# EAGLE library part 613018216921 (library Wurth_Elektronik2)
WR-PHD 2.54mm Dual S. Header Bottom Entry Large, 18 Pins=>Code : Con_BTB_SHD_2.54_2_613018216921 <http://katalog.we-online.de/media/images/eican/Con_BTB_SHD_2.54_2_6130xx216921_pf2.jpg> Details see: http://katalog.we-online.de/en/em/613_0xx_216_921 Created 2014-05-30, Karrer Zheng 2014 (C) Würth Elektronik
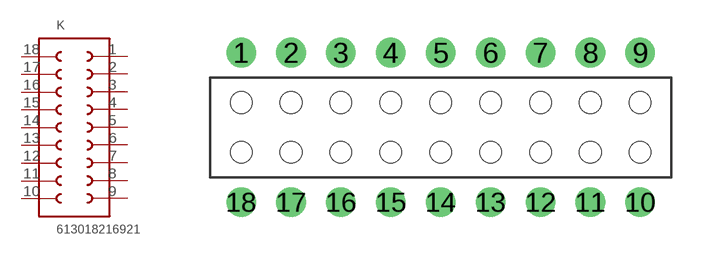
[diagram p173: symbol with the pads of 613018216921; footprint 613018216921]

Designator prefix K

## 613018216921  [613018216921]
1  1  pas
2  2  pas
3  3  pas
4  4  pas
5  5  pas
6  6  pas
7  7  pas
8  8  pas
9  9  pas
10  10  pas
11  11  pas
12  12  pas
13  13  pas
14  14  pas
15  15  pas
16  16  pas
17  17  pas
18  18  pas

## Footprint 613018216921 (pad centres in mm)
WR-PHD 2.54mm Dual S. Header Bottom Entry Large, 18 Pins
drill 1: 1 -10.16,3.81; 2 -7.62,3.81; 3 -5.08,3.81; 4 -2.54,3.81; 5 0,3.81; 6 2.54,3.81; 7 5.08,3.81; 8 7.62,3.81; 9 10.16,3.81; 10 10.16,-3.81; 11 7.62,-3.81; 12 5.08,-3.81; 13 2.54,-3.81; 14 0,-3.81; 15 -2.54,-3.81; 16 -5.08,-3.81; 17 -7.62,-3.81; 18 -10.16,-3.81
hole 1.1 at -10.16,1.27
hole 1.1 at -7.62,1.27
hole 1.1 at -5.08,1.27
hole 1.1 at -2.54,1.27
hole 1.1 at 0,1.27
hole 1.1 at 2.54,1.27
hole 1.1 at 5.08,1.27
hole 1.1 at 7.62,1.27
hole 1.1 at 10.16,1.27
hole 1.1 at -10.16,-1.27
hole 1.1 at -7.62,-1.27
hole 1.1 at -5.08,-1.27
hole 1.1 at -2.54,-1.27
hole 1.1 at 0,-1.27
hole 1.1 at 2.54,-1.27
hole 1.1 at 5.08,-1.27
hole 1.1 at 7.62,-1.27
hole 1.1 at 10.16,-1.27